# Altium schematic symbol library Symbols_ElektorStyle.SCHLIB: 103 symbols
Pins are listed as number, name and electrical type; pins without a type are passive.

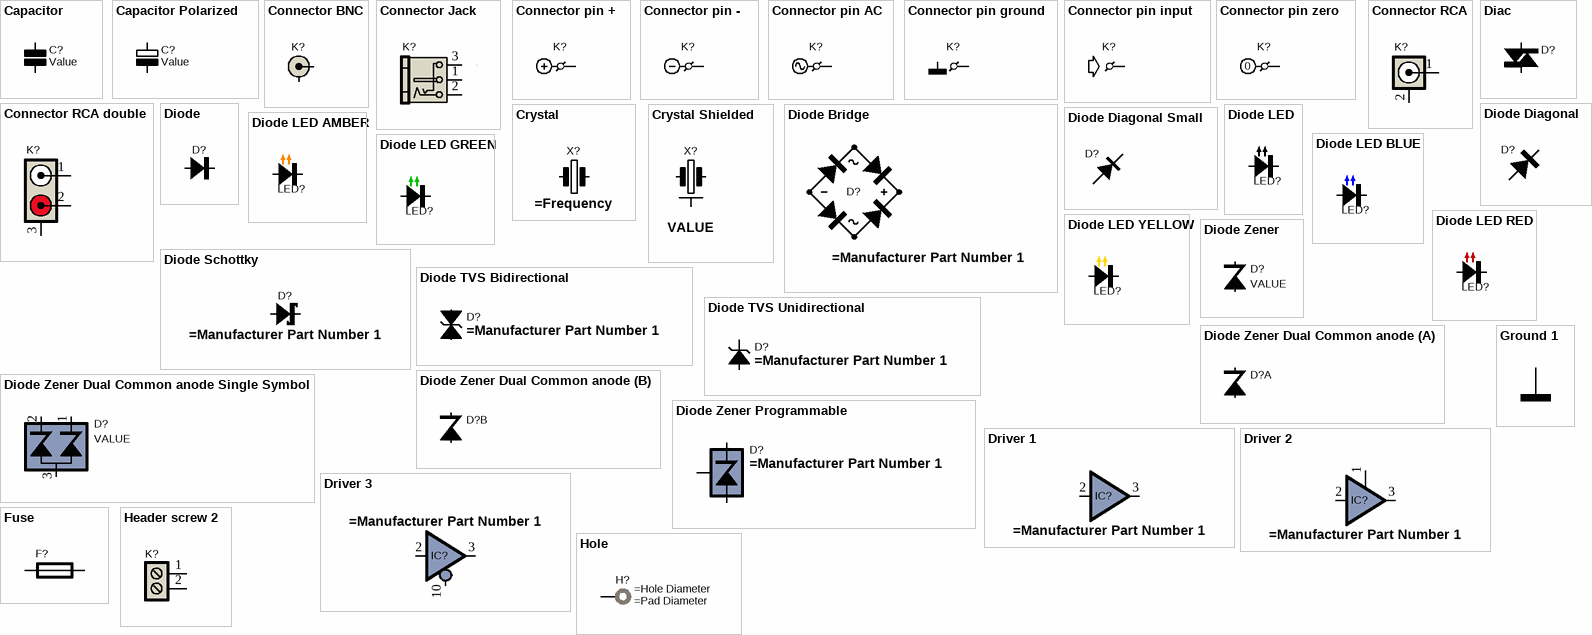
[diagram p0: symbols Capacitor to Hole]

## Capacitor
designator C?
General symbol for a capacitor; Value: Value
pins: 1, 2

## Capacitor Polarized
designator C?
General symbol for a polarized capacitor; Value: Value
pins: 1, 2

## Connector BNC
designator K?, comment General symbol for a BNC connector  (value not drawn)
pins: 1, 2

## Connector Jack
designator K?, comment General symbol for a DC jack receptacle  (value not drawn)
pins: 1, 2, 3

## Connector pin +
designator K?
General symbol for a pin
pins: 1

## Connector pin -
designator K?
General symbol for a pin
pins: 1

## Connector pin AC
designator K?
General symbol for a pin
pins: 1

## Connector pin ground
designator K?
General symbol for a pin
pins: 1

## Connector pin input
designator K?
General symbol for a pin
pins: 1

## Connector pin zero
designator K?
General symbol for a pin
pins: 1
text: 0

## Connector RCA
designator K?, comment General symbol for a RCA connector  (value not drawn)
pins: 1, 2 GND

## Connector RCA double
designator K?, comment General symbol for a RCA connector  (value not drawn)
pins: 1 L, 2 R, 3 GND

## Crystal
designator X?
General symbol for a piëzo electric crystal; VALUE: =Frequency
pins: 1, 2

## Crystal Shielded
designator X?
General symbol for a shielded crystal; Value: VALUE
pins: 1, 2, 3 GND, 4 GND

## Diac
designator D?
General symbol for a triac
pins: 1 A1 "Cathode", 2 A2 "Anode"

## Diode
designator D?
General symbol for a silicon diode
pins: 1 A "Anode", 2 K "Cathode"

## Diode Bridge
designator D?
General symbol for a bridge rectifier
pins: AC1, AC2, DC+, DC-

## Diode Diagonal
designator D?
General symbol for a silicon diode
pins: 1 A, 2 K

## Diode Diagonal Small
designator D?
General symbol for a silicon diode
pins: 1 A, 2 K

## Diode LED
designator LED?
General symbol for a single LED
pins: 1 A "Anode", 2 K "Cathode"

## Diode LED AMBER
designator LED?
General symbol for a single LED
pins: 1 A "Anode", 2 K "Cathode"

## Diode LED BLUE
designator LED?
General symbol for a single LED
pins: 1 A "Anode", 2 K "Cathode"

## Diode LED GREEN
designator LED?
General symbol for a single LED
pins: 1 A "Anode", 2 K "Cathode"

## Diode LED RED
designator LED?
General symbol for a single LED
pins: 1 A "Anode", 2 K "Cathode"

## Diode LED YELLOW
designator LED?
General symbol for a single LED
pins: 1 A "Anode", 2 K "Cathode"

## Diode Schottky
designator D?
General symbol for a Schottky type diode
pins: 1 A "Anode", 2 K "Cathode"

## Diode TVS Bidirectional
designator D?
General symbol for a silicon diode
pins: 1 "Cathode", 2 "Anode"
1 alternate drawing of the same symbol

## Diode TVS Unidirectional
designator D?
General symbol for a silicon diode
pins: 1 "Cathode", 2 "Anode"
1 alternate drawing of the same symbol

## Diode Zener
designator D?
General symbol for a zener diode; Value: VALUE
pins: 1 K "Cathode", 2 A "Anode"

## Diode Zener Dual Common anode
designator D?
General symbol for a common anode, dual diode
part A pins: 1 K "Cathode", 3 A "Anode"
part B pins: 2 K "Cathode", 3 A "Anode"

## Diode Zener Dual Common anode Single Symbol
designator D?
General symbol for a common anode, dual diode; Value: VALUE
pins: 1 K2 "Cathode", 2 K1 "Cathode", 3 CA "Anode"

## Diode Zener Programmable
designator D?
General symbol for a programmable zener diode; Value: VALUE
pins: A "Anode", K "Cathode", P "Programming"

## Driver 1
designator IC?
pins: 2 B0, 3 O0

## Driver 2
designator IC?
pins: 1 ~{A0}, 2 B0, 3 O0

## Driver 3
designator IC?
pins: 2 B0, 3 O0, 10 ~{A3}

## Fuse
designator F?, comment General symbol for a fuse  (value not drawn)
pins: 1, 2

## Ground 1
designator GND  (net tie, no BOM)
Ground symbol
pins: GND (power)

## Header screw 2
designator K?, comment General symbol for a screw terminal  (value not drawn)
pins: 1, 2

## Hole
designator H?, comment Mounting Hole  (value not drawn)  (no BOM)
pins: 1 (power)

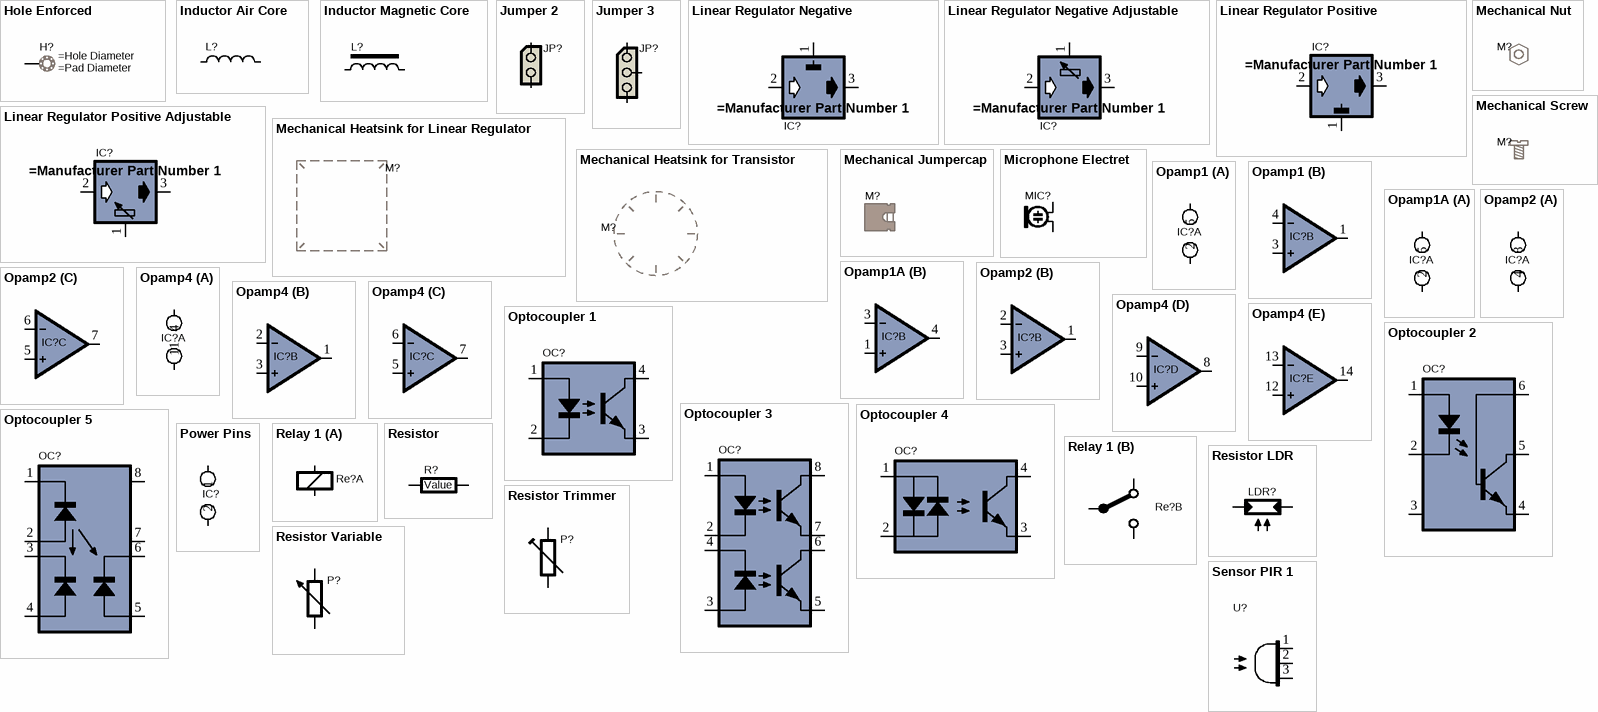
[diagram p1: symbols Hole Enforced to Sensor PIR 1]

## Hole Enforced
designator H?, comment Mounting Hole  (value not drawn)  (no BOM)
pins: 1 (power)

## Inductor Air Core
designator L?, comment General symbol for an aircore inductor  (value not drawn)
pins: 1, 2

## Inductor Magnetic Core
designator L?, comment General symbol for a inductor with a magnetic core  (value not drawn)
pins: 1, 2

## Jumper 2
designator JP?, comment General symbol for a jumper  (value not drawn)
pins: 1, 2

## Jumper 3
designator JP?, comment General symbol for a jumper  (value not drawn)
pins: 1, 1, 3

## Linear Regulator Negative
designator IC?
General symbol for a linear regulator
pins: 1 ADJ, 2 IN, 3 OUT

## Linear Regulator Negative Adjustable
designator IC?
General symbol for a linear regulator
pins: 1 ADJ, 2 IN, 3 OUT

## Linear Regulator Positive
designator IC?
General symbol for a linear regulator
pins: 1 ADJ, 2 IN, 3 OUT

## Linear Regulator Positive Adjustable
designator IC?
General symbol for a linear regulator
pins: 1 ADJ, 2 IN, 3 OUT

## Mechanical Heatsink for Linear Regulator
designator M?, comment General symbol for an IC heatsink  (value not drawn)  (mechanical)

## Mechanical Heatsink for Transistor
designator M?, comment General symbol for a transistor heatsink  (value not drawn)  (mechanical)

## Mechanical Jumpercap
designator M?, comment General symbol for a jumper cap  (value not drawn)  (mechanical)

## Mechanical Nut
designator M?, comment General symbol for a hex nut  (value not drawn)  (mechanical)

## Mechanical Screw
designator M?, comment General symbol for a screw  (value not drawn)  (mechanical)

## Microphone Electret
designator MIC?, comment General symbol for a microphone  (value not drawn)
pins: 1, 2

## Opamp1
designator IC?, comment General symbol for a operational amplifier  (value not drawn)
part A pins: 2, 5
part B pins: 1 OUT, 3 IN+, 4 IN-

## Opamp1A
designator IC?, comment General symbol for a operational amplifier  (value not drawn)
part A pins: 2, 5
part B pins: 1 IN+, 3 IN-, 4 OUT

## Opamp2
designator IC?, comment General symbol for a operational amplifier  (value not drawn)
part A pins: 4, 8
part B pins: 1 OUT, 2 IN-, 3 IN+
part C pins: 5 IN+, 6 IN-, 7 OUT

## Opamp4
designator IC?, comment General symbol for a operational amplifier  (value not drawn)
part A pins: 4, 11
part B pins: 1 OUT, 2 IN-, 3 IN+
part C pins: 5 IN+, 6 IN-, 7 OUT
part D pins: 8 OUT, 9 IN-, 10 IN+
part E pins: 12 IN+, 13 IN-, 14 OUT

## Optocoupler 1
designator OC?, comment General symbol for a optocoupler  (value not drawn)
pins: 1, 2, 3 IN, 4

## Optocoupler 2
designator OC?, comment General symbol for a optocoupler  (value not drawn)
pins: 1, 2, 3, 4, 5, 6

## Optocoupler 3
designator OC?, comment General symbol for a optocoupler  (value not drawn)
pins: 1, 2, 3, 4, 5, 6, 7, 8

## Optocoupler 4
designator OC?, comment General symbol for a optocoupler  (value not drawn)
pins: 1, 2, 3 IN, 4

## Optocoupler 5
designator OC?, comment General symbol for a optocoupler  (value not drawn)
pins: 1, 2, 3, 4, 5, 6, 7, 8

## Power Pins
designator IC?, comment General symbol for IC power pins  (value not drawn)
pins: 1, 2

## Relay 1
designator Re?
General symbol for a relay
part A pins: 85 VG "Anode", 86 VS "Cathode"
part B pins: 30 COMMON, 87 NO, 87a NC

## Resistor
designator R?, comment General symbol for a resistor  (value not drawn)
Value: Value
pins: 1, 2

## Resistor LDR
designator LDR?, comment General symbol for a Light Dependent Resistor  (value not drawn)
pins: 1, 2

## Resistor Trimmer
designator P?, comment General symbol for a variable resistor  (value not drawn)
pins: 1, 2, 3
1 alternate drawing of the same symbol

## Resistor Variable
designator P?, comment General symbol for a variable resistor  (value not drawn)
pins: 1, 2, 3
1 alternate drawing of the same symbol

## Sensor PIR 1
designator U?, comment General symbol for a passive infrared sensor  (value not drawn)
pins: 1, 2, 3
1 alternate drawing of the same symbol

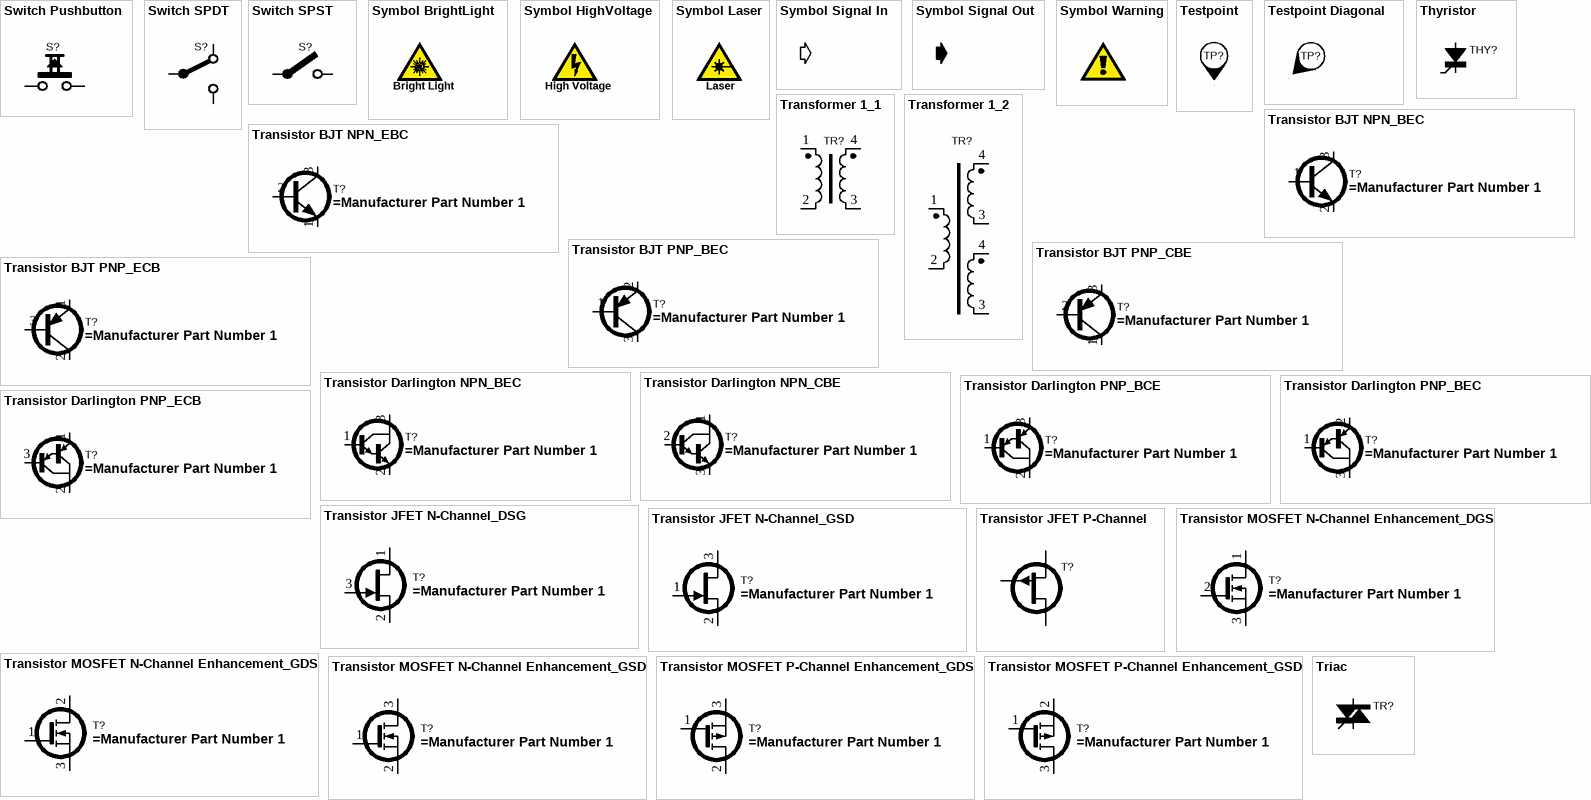
[diagram p2: symbols Switch Pushbutton to Triac]

## Switch Pushbutton
designator S?
Pushbutton switch
pins: 1, 2

## Switch SPDT
designator S?, comment General symbol for a ON/OFF switch  (value not drawn)
pins: 1, 2, 3

## Switch SPST
designator S?, comment General symbol for a ON/OFF switch  (value not drawn)
pins: 1, 2

## Symbol BrightLight
designator Symbol?, comment Brght light warning  (value not drawn)  (graphical)
1 alternate drawing of the same symbol
text: Bright Light

## Symbol HighVoltage
designator Symbol?, comment High voltage warning  (value not drawn)  (graphical)
1 alternate drawing of the same symbol
text: High Voltage

## Symbol Laser
designator Symbol?, comment Laser warning  (value not drawn)  (graphical)
1 alternate drawing of the same symbol
text: Laser

## Symbol Signal In
designator Symbol?, comment Signal direction arrow  (value not drawn)  (graphical)
1 alternate drawing of the same symbol

## Symbol Signal Out
designator Symbol?, comment Signal direction arrow  (value not drawn)  (graphical)
1 alternate drawing of the same symbol

## Symbol Warning
designator Symbol?, comment General warning  (value not drawn)  (graphical)
1 alternate drawing of the same symbol

## Testpoint
designator TP?  (value not drawn)  (no BOM)
pins: 1 (power)

## Testpoint Diagonal
designator TP?  (value not drawn)  (no BOM)
Testpoint
pins: 1 (power)

## Thyristor
designator THY?
General symbol for a thyristor
pins: 1 A "Anode", 2 K "Cathode", 3 G "Cathode"

## Transformer 1_1
designator TR?, comment General symbol for a transformer  (value not drawn)
pins: 1, 2, 3 IN, 4

## Transformer 1_2
designator TR?, comment General symbol for a transformer  (value not drawn)
pins: 1, 2, 3 IN, 3 IN, 4, 4

## Transistor BJT NPN_BEC
designator T?
General symbol for a bipolar NPN transistor
pins: 1 B, 2 E, 3 C

## Transistor BJT NPN_EBC
designator T?
General symbol for a bipolar NPN transistor
pins: 1 E, 2 B, 3 C

## Transistor BJT PNP_BEC
designator T?
General symbol for a bipolar PNP transistor
pins: 1 B, 2 E, 3 C

## Transistor BJT PNP_CBE
designator T?
General symbol for a bipolar PNP transistor
pins: 1 C, 2 B, 3 E

## Transistor BJT PNP_ECB
designator T?
General symbol for a bipolar PNP transistor
pins: 1 E, 2 C, 3 B

## Transistor Darlington NPN_BEC
designator T?
General symbol for a NPN darlington
pins: 1 B, 2 E, 3 C

## Transistor Darlington NPN_CBE
designator T?
General symbol for a NPN darlington
pins: 1 C, 2 B, 3 E

## Transistor Darlington PNP_BCE
designator T?
General symbol for a PNP darlington
pins: 1 B, 2 C, 3 E

## Transistor Darlington PNP_BEC
designator T?
General symbol for a PNP darlington
pins: 1 B, 2 E, 3 C

## Transistor Darlington PNP_ECB
designator T?
General symbol for a PNP darlington
pins: 1 E, 2 C, 3 B

## Transistor JFET N-Channel_DSG
designator T?
General symbol for a N-Channel JFET
pins: 1 D, 2 S, 3 G

## Transistor JFET N-Channel_GSD
designator T?
General symbol for a N-Channel JFET
pins: 1 G, 2 S, 3 D

## Transistor JFET P-Channel
designator T?, comment General symbol for a P-Channel JFET  (value not drawn)
pins: D, G, S

## Transistor MOSFET N-Channel Enhancement_DGS
designator T?
General symbol for a N-Channel enhancement MOSFET
pins: 1 D, 2 G, 3 S
2 alternate drawings of the same symbol

## Transistor MOSFET N-Channel Enhancement_GDS
designator T?
General symbol for a N-Channel enhancement MOSFET
pins: 1 G, 2 D, 3 S
2 alternate drawings of the same symbol

## Transistor MOSFET N-Channel Enhancement_GSD
designator T?
General symbol for a N-Channel enhancement MOSFET
pins: 1 G, 2 S, 3 D
2 alternate drawings of the same symbol

## Transistor MOSFET P-Channel Enhancement_GDS
designator T?
General symbol for a P-Channel enhancement MOSFET
pins: 1 G, 2 D, 3 S
2 alternate drawings of the same symbol

## Transistor MOSFET P-Channel Enhancement_GSD
designator T?
General symbol for a P-Channel enhancement MOSFET
pins: 1 G, 2 S, 3 D
2 alternate drawings of the same symbol

## Triac
designator TR?
General symbol for a triac
pins: 1 MT1 "Anode", 2 MT2 "Cathode", 3 G "Anode"